# Altium schematic symbol library Schlib1.SchLib: 9 symbols
Pins are listed as number, name and electrical type; pins without a type are passive.

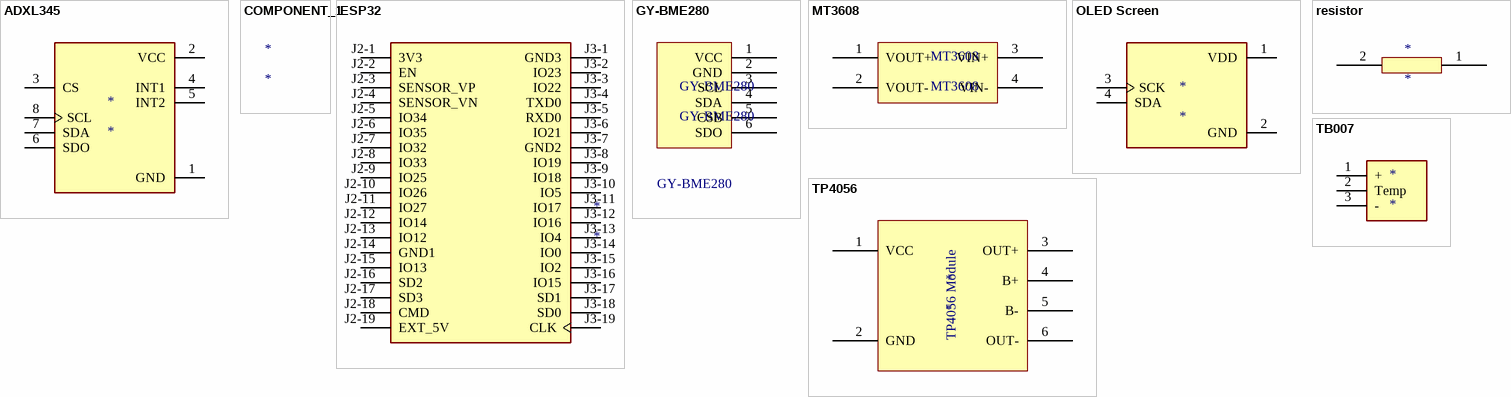
[diagram p0: symbols ADXL345 to TP4056]

## ADXL345
designator *
footprint ADXL345
pins: 1 GND, 2 VCC, 3 CS, 4 INT1, 5 INT2, 6 SDO, 7 SDA, 8 SCL

## COMPONENT_1
designator *

## ESP32
designator *
footprint MODULE_ESP32-DEVKITC-32D
pins: J2-1 3V3, J2-2 EN, J2-3 SENSOR_VP, J2-4 SENSOR_VN, J2-5 IO34, J2-6 IO35, J2-7 IO32, J2-8 IO33, J2-9 IO25, J2-10 IO26, J2-11 IO27, J2-12 IO14, J2-13 IO12, J2-14 GND1, J2-15 IO13, J2-16 SD2, J2-17 SD3, J2-18 CMD, J2-19 EXT_5V, J3-1 GND3, J3-2 IO23, J3-3 IO22, J3-4 TXD0, J3-5 RXD0, J3-6 IO21, J3-7 GND2, J3-8 IO19, J3-9 IO18, J3-10 IO5, J3-11 IO17, J3-12 IO16, J3-13 IO4, J3-14 IO0, J3-15 IO2, J3-16 IO15, J3-17 SD1, J3-18 SD0, J3-19 CLK

## GY-BME280
designator GY-BME280
footprint GY-BME280
pins: 1 VCC, 2 GND, 3 SCL, 4 SDA, 5 CSB, 6 SDO

## MT3608
designator MT3608
footprint MT3608
pins: 1 VOUT+, 2 VOUT-, 3 VIN+, 4 VIN-

## OLED Screen
designator *
footprint LCD_OLED_128X64_1.3_I2C
pins: 1 VDD, 2 GND, 3 SCK, 4 SDA

## resistor
designator *
footprint resistor
pins: 1, 2

## TB007
designator *
footprint TB007
pins: 1 +, 2 Temp, 3 -

## TP4056
designator *
footprint TP4056Module
pins: 1 VCC, 2 GND, 3 OUT+, 4 B+, 5 B-, 6 OUT-
text: TP4056 Module